# EAGLE library part AUDIO-TDA7440 (library Namenlos)
edit this description Auto generated by make-symbol-device-package-bsdl.ulp Rev. 44 Source:
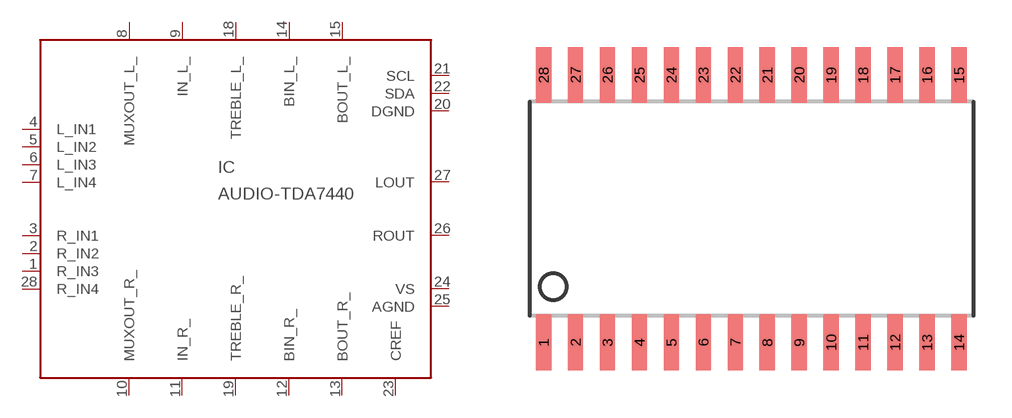
[diagram p12: symbol with the pads of SO28; footprint SO28]

Designator prefix IC

## AUDIO-TDA7440  [SO28]
1  R_IN3  in
2  R_IN2  in
3  R_IN1  in
4  L_IN1  in
5  L_IN2  in
6  L_IN3  in
7  L_IN4  in
8  MUXOUT_L_  out
9  IN_L_  in
10  MUXOUT_R_  out
11  IN_R_  in
12  BIN_R_  in
13  BOUT_R_  out
14  BIN_L_  in
15  BOUT_L_  out
18  TREBLE_L_  out
19  TREBLE_R_  out
20  DGND  sup
21  SCL
22  SDA
23  CREF  sup
24  VS  pwr
25  AGND  pwr
26  ROUT  out
27  LOUT  out
28  R_IN4  in

## Footprint SO28 (pad centres in mm)
smd 0.61 x 2.21: 1 -8.255,-5.315; 2 -6.985,-5.315; 3 -5.715,-5.315; 4 -4.445,-5.315; 5 -3.175,-5.315; 6 -1.905,-5.315; 7 -0.635,-5.315; 8 0.635,-5.315; 9 1.905,-5.315; 10 3.175,-5.315; 11 4.445,-5.315; 12 5.715,-5.315; 13 6.985,-5.315; 14 8.255,-5.315; 15 8.255,5.315; 16 6.985,5.315; 17 5.715,5.315; 18 4.445,5.315; 19 3.175,5.315; 20 1.905,5.315; 21 0.635,5.315; 22 -0.635,5.315; 23 -1.905,5.315; 24 -3.175,5.315; 25 -4.445,5.315; 26 -5.715,5.315; 27 -6.985,5.315; 28 -8.255,5.315